# Altium schematic symbol library SCH - CONNECTORS - SAMTEC - TFM-104-XX-X-D-WT.SCHLIB: 1 symbol
Pins are listed as number, name and electrical type; pins without a type are passive.

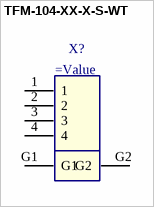
[diagram p0: symbol TFM-104-XX-X-S-WT]

## TFM-104-XX-X-S-WT
designator X?
1.27mm Terminal Strip; MF: SAMTEC; Created: 2019_07_03_AGeiger; Value: =MPN
footprint TFM-104-01-L-S-WT
footprint TFM-104-02-L-S-WT
pins: 1, 2, 3, 4, G1, G2